# EAGLE library part ADUC84*-52 (library analog-devices)
ADuC845/ADuC847/ADuC848 Package MQFP 52 Source: http://www.analog.com/static/imported-files/data_sheets/ADUC845_847_848.pdf
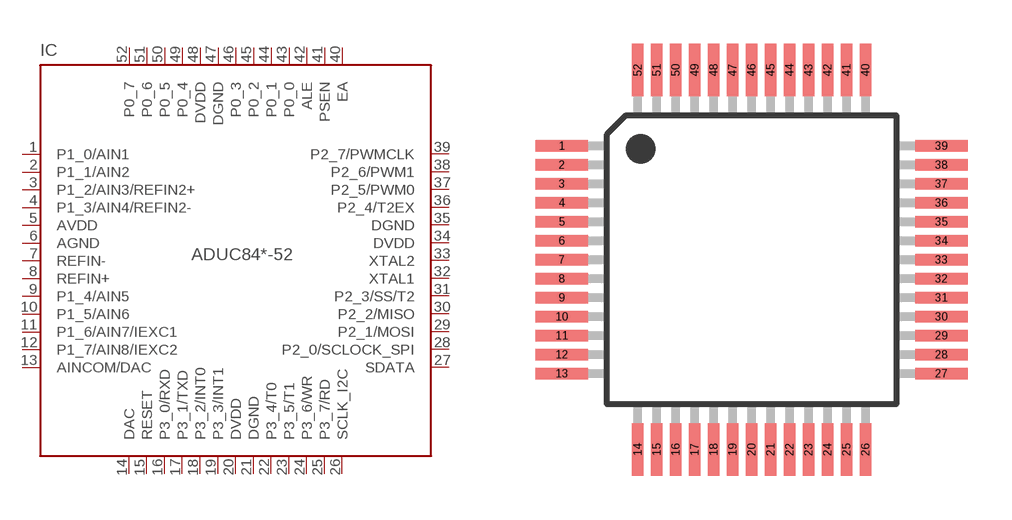
[diagram p148: symbol with the pads of MQFP52; footprint MQFP52]

Designator prefix IC

## ADUC845-52, ADUC847-52, ADUC848-52  [MQFP52]
1  P1_0/AIN1  in
2  P1_1/AIN2  in
3  P1_2/AIN3/REFIN2+  in
4  P1_3/AIN4/REFIN2-  in
5  AVDD  pwr
6  AGND  pwr
7  REFIN-  in
8  REFIN+  in
9  P1_4/AIN5  in
10  P1_5/AIN6  in
11  P1_6/AIN7/IEXC1
12  P1_7/AIN8/IEXC2
13  AINCOM/DAC
14  DAC  out
15  RESET  in
16  P3_0/RXD
17  P3_1/TXD
18  P3_2/INT0
19  P3_3/INT1
20  DVDD  pwr
21  DGND  pwr
22  P3_4/T0
23  P3_5/T1
24  P3_6/WR
25  P3_7/RD
26  SCLK_I2C
27  SDATA
28  P2_0/SCLOCK_SPI
29  P2_1/MOSI
30  P2_2/MISO
31  P2_3/SS/T2
32  XTAL1  in
33  XTAL2  out
34  DVDD  pwr
35  DGND  pwr
36  P2_4/T2EX
37  P2_5/PWM0
38  P2_6/PWM1
39  P2_7/PWMCLK
40  EA  in
41  PSEN  out
42  ALE  out
43  P0_0
44  P0_1
45  P0_2
46  P0_3
47  DGND  pwr
48  DVDD  pwr
49  P0_4
50  P0_5
51  P0_6
52  P0_7

## Footprint MQFP52 (pad centres in mm)
52-Lead Metric Quad Flat Package MQFP S-52-2 COMPLIANT TO JEDEC STANDARDS MO-112-AC-1 Source: http://www.analog.com/static/imported-files/data_sheets/ADUC845_847_848.pdf
smd 1.8 x 0.4: 1 -6.5,3.9; 2 -6.5,3.25; 3 -6.5,2.6; 4 -6.5,1.95; 5 -6.5,1.3; 6 -6.5,0.65; 7 -6.5,0; 8 -6.5,-0.65; 9 -6.5,-1.3; 10 -6.5,-1.95; 11 -6.5,-2.6; 12 -6.5,-3.25; 13 -6.5,-3.9; 27 6.5,-3.9; 28 6.5,-3.25; 29 6.5,-2.6; 30 6.5,-1.95; 31 6.5,-1.3; 32 6.5,-0.65; 33 6.5,0; 34 6.5,0.65; 35 6.5,1.3; 36 6.5,1.95; 37 6.5,2.6; 38 6.5,3.25; 39 6.5,3.9
smd 0.4 x 1.8: 14 -3.9,-6.5; 15 -3.25,-6.5; 16 -2.6,-6.5; 17 -1.95,-6.5; 18 -1.3,-6.5; 19 -0.65,-6.5; 20 0,-6.5; 21 0.65,-6.5; 22 1.3,-6.5; 23 1.95,-6.5; 24 2.6,-6.5; 25 3.25,-6.5; 26 3.9,-6.5; 40 3.9,6.5; 41 3.25,6.5; 42 2.6,6.5; 43 1.95,6.5; 44 1.3,6.5; 45 0.65,6.5; 46 0,6.5; 47 -0.65,6.5; 48 -1.3,6.5; 49 -1.95,6.5; 50 -2.6,6.5; 51 -3.25,6.5; 52 -3.9,6.5